# EAGLE library part MPU-6050 (library Adafruit MPU6050)
MPU-6050 3-Axis Accelerometer/Gyroscope
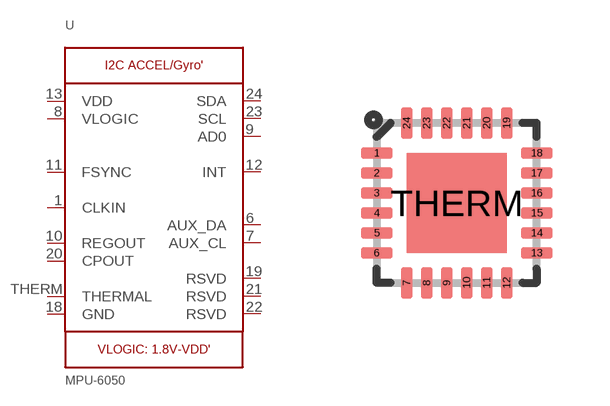
[diagram p2: symbol with the pads of QFN24_4MM_SMSC; footprint QFN24_4MM_SMSC]

Designator prefix U

## MPU-6050  [QFN24_4MM_SMSC]
1  CLKIN  in
6  AUX_DA
7  AUX_CL
8  VLOGIC  pwr
9  AD0  in
10  REGOUT  pas
11  FSYNC  in
12  INT  out
13  VDD  pwr
18  GND  pwr
19  RSVD  nc
20  CPOUT  pas
21  RSVD  nc
22  RSVD  nc
23  SCL
24  SDA
THERM  THERMAL  pwr

## Footprint QFN24_4MM_SMSC (pad centres in mm)
smd 0.8 x 0.28: 1 -2,1.25; 2 -2,0.75; 3 -2,0.25; 4 -2,-0.25; 5 -2,-0.75; 6 -2,-1.25; 13 2,-1.25; 14 2,-0.75; 15 2,-0.25; 16 2,0.25; 17 2,0.75; 18 2,1.25
smd 0.28 x 0.8: 7 -1.25,-2; 8 -0.75,-2; 9 -0.25,-2; 10 0.25,-2; 11 0.75,-2; 12 1.25,-2; 19 1.25,2; 20 0.75,2; 21 0.25,2; 22 -0.25,2; 23 -0.75,2; 24 -1.25,2
smd 2.5 x 2.5: THERM 0,0